# Altium footprint library 4x7SegmentDisplay.PcbLib: 1 footprints
Each footprint in its own frame and in the unit in brackets; x right, y up, seen from the top. Pads: shape width x height; smd on the part's side, far side on the other; paste and mask are expansions set on the pad; w line width, h text height; cw(c..) or ccw(c..) is an arc to the next point about the centre after c.
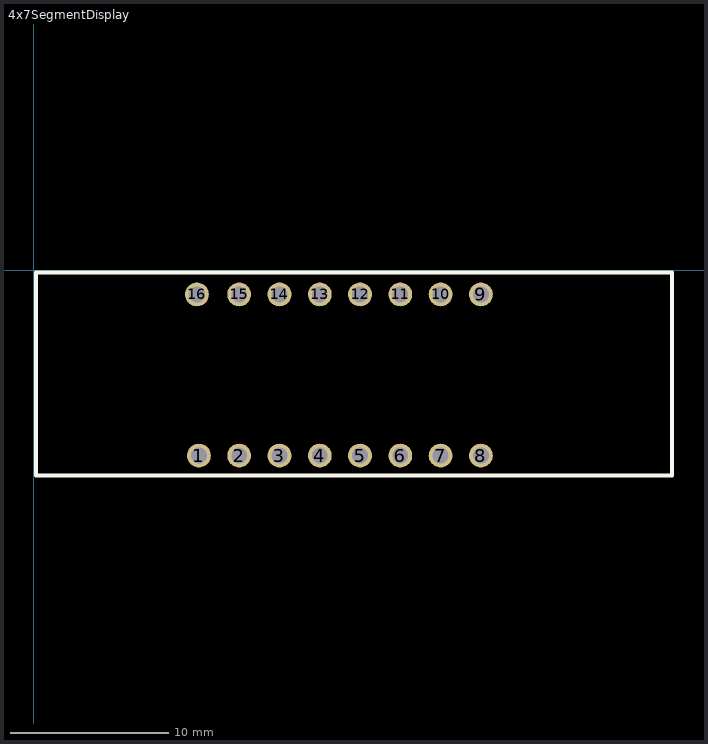
[diagram p0: the footprint, top view; thin cyan lines are the x and y axes]

## 4x7SegmentDisplay [mm]
height 7
pads (16):
  round 1.5 hole 1: 1(10.414,-11.684) 2(12.954,-11.684) 3(15.494,-11.684) 4(18.034,-11.684) 5(20.574,-11.684) 6(23.114,-11.684) 7(25.654,-11.684) 8(28.194,-11.684) 9(28.194,-1.524) 10(25.654,-1.524) 11(23.114,-1.524) 12(20.574,-1.524) 13(18.034,-1.524) 14(15.494,-1.524) 15(12.954,-1.524) 16(10.287,-1.524)
Top Overlay:
  lines w0.254: 0.127,-12.954 40.259,-12.954 40.259,-0.127 0.127,-0.127 0.127,-12.954